# Altium footprint library SnapEDApcb.PcbLib: 1 footprints
Each footprint in its own frame and in the unit in brackets; x right, y up, seen from the top. Pads: shape width x height; smd on the part's side, far side on the other; paste and mask are expansions set on the pad; w line width, h text height; cw(c..) or ccw(c..) is an arc to the next point about the centre after c.
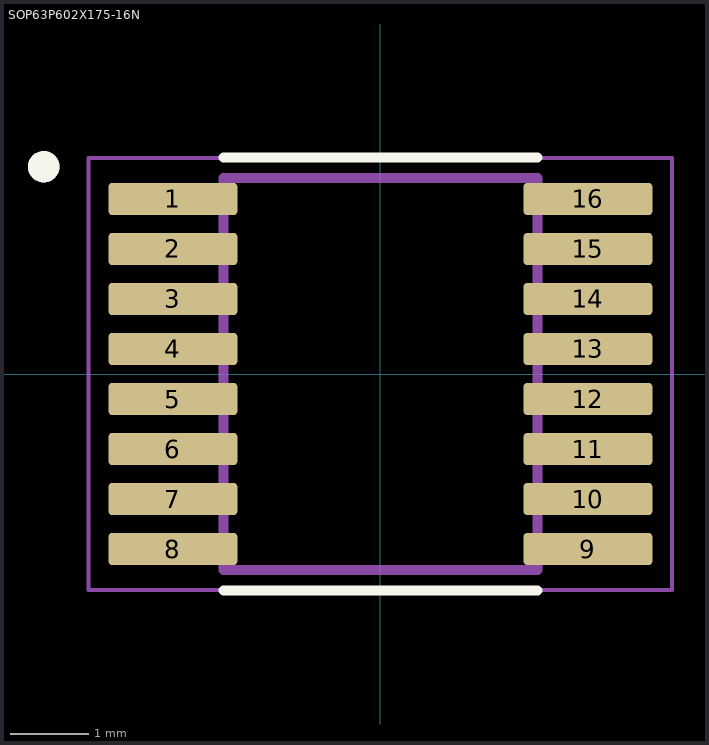
[diagram p0: the footprint, top view; thin cyan lines are the x and y axes]

## SOP63P602X175-16N [mm]
pads (16):
  rrect25% 1.64x0.41 smd: 1(-2.635,2.222) 2(-2.635,1.587) 3(-2.635,0.953) 4(-2.635,0.318) 5(-2.635,-0.318) 6(-2.635,-0.953) 7(-2.635,-1.587) 8(-2.635,-2.222) 9(2.635,-2.222) 10(2.635,-1.587) 11(2.635,-0.953) 12(2.635,-0.318) 13(2.635,0.318) 14(2.635,0.953) 15(2.635,1.587) 16(2.635,2.222)
Top Overlay:
  circle w0.2: c-4.275,2.632 r0.1
  lines w0.127: -1.995,-2.748 1.995,-2.748 ; -1.995,2.748 1.995,2.748
Mechanical 13:
  circle w0.2: c-4.275,2.632 r0.1
  lines w0.127: -1.995,-2.49 1.995,-2.49 1.995,2.49 -1.995,2.49 -1.995,-2.49
Mechanical 15:
  lines w0.05: -3.705,-2.74 3.705,-2.74 3.705,2.74 -3.705,2.74 -3.705,-2.74